# Altium footprint library LSM6DSRXTR.PcbLib: 1 footprints
Each footprint in its own frame and in the unit in brackets; x right, y up, seen from the top. Pads: shape width x height; smd on the part's side, far side on the other; paste and mask are expansions set on the pad; w line width, h text height; cw(c..) or ccw(c..) is an arc to the next point about the centre after c.
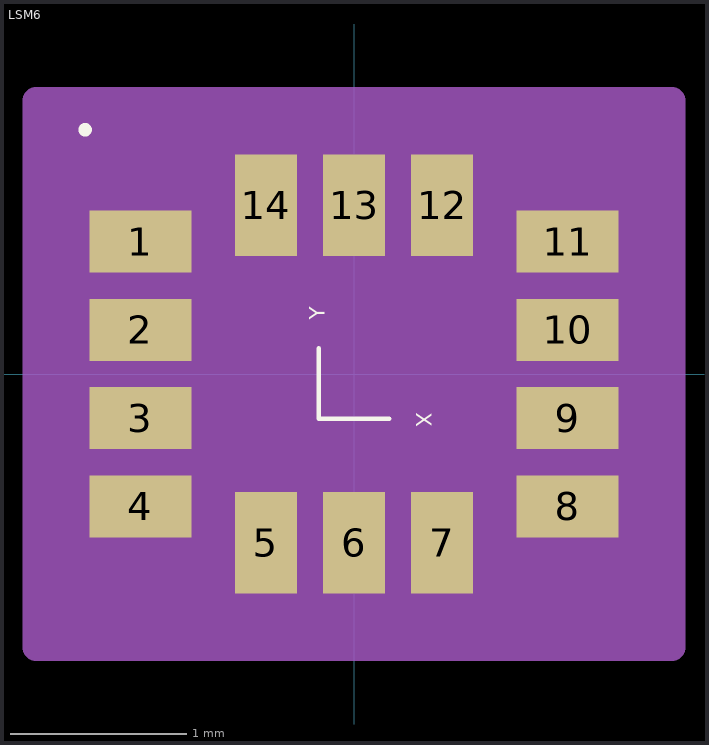
[diagram p0: the footprint, top view; thin cyan lines are the x and y axes]

## LSM6 [mm]
pads (14):
  rect 0.577x0.352 smd paste+0 mask+0.102: 1(-1.21,0.75) 2(-1.21,0.25) 3(-1.21,-0.25) 4(-1.21,-0.75) 8(1.21,-0.75) 9(1.21,-0.25) 10(1.21,0.25) 11(1.21,0.75)
  rect 0.352x0.577 smd paste+0 mask+0.102: 5(-0.5,-0.956) 6(0,-0.956) 7(0.5,-0.956) 12(0.5,0.956) 13(0,0.956) 14(-0.5,0.956)
Top Overlay:
  circle w0.051: c-1.524,1.384 r0.013
  lines w0.025: -0.2,0.146 -0.2,-0.254 0.2,-0.254
  text "Y" at -0.135,0.307 h0.15
  text "X" at 0.322,-0.301 h0.15
Mechanical 13:
  lines w0.025: -1.549,0.025 -0.279,1.295 ; -1.549,-1.295 -1.549,1.295 1.549,1.295 1.549,-1.295 -1.549,-1.295 ; -1.549,-0.875 -1.448,-0.875 -1.448,-0.625 -1.549,-0.625 -1.549,-0.875 ; -1.549,-0.375 -1.448,-0.375 -1.448,-0.125 -1.549,-0.125 -1.549,-0.375 ; -1.549,0.125 -1.448,0.125 -1.448,0.375 -1.549,0.375 -1.549,0.125 ; -1.549,0.625 -1.448,0.625 -1.448,0.875 -1.549,0.875 -1.549,0.625 ; -0.625,-1.295 -0.625,-1.194 -0.375,-1.194 -0.375,-1.295 -0.625,-1.295 ; -0.625,1.194 -0.625,1.295 -0.375,1.295 -0.375,1.194 -0.625,1.194 ; -0.125,-1.295 -0.125,-1.194 0.125,-1.194 0.125,-1.295 -0.125,-1.295 ; -0.125,1.194 -0.125,1.295 0.125,1.295 0.125,1.194 -0.125,1.194 ; 0.375,-1.295 0.375,-1.194 0.625,-1.194 0.625,-1.295 0.375,-1.295 ; 0.375,1.194 0.375,1.295 0.625,1.295 0.625,1.194 0.375,1.194 ; 1.448,-0.875 1.448,-0.625 1.549,-0.625 1.549,-0.875 1.448,-0.875 ; 1.448,-0.375 1.448,-0.125 1.549,-0.125 1.549,-0.375 1.448,-0.375 ; 1.448,0.125 1.448,0.375 1.549,0.375 1.549,0.125 1.448,0.125 ; 1.448,0.625 1.448,0.875 1.549,0.875 1.549,0.625 1.448,0.625
Mechanical 15:
  region: -0.879,-1.549 -1.803,-1.549 -1.803,-1.129 -1.803,1.129 -1.803,1.549 -0.879,1.549 0.879,1.549 1.803,1.549 1.803,1.129 1.803,-1.129 1.803,-1.549 0.879,-1.549
  lines w0.152: -1.803,-1.549 -0.879,-1.549 0.879,-1.549 1.803,-1.549 1.803,-1.129 1.803,1.129 1.803,1.549 0.879,1.549 -0.879,1.549 -1.803,1.549 -1.803,1.129 -1.803,-1.129 -1.803,-1.549
3D body "LGA-14L_STM.step": height 0.87, standoff 0, extent -1.549,-1.295 1.549,1.295